# EAGLE library part LM13600 (library marky-parts)
LM13600 Operational Transconductance Amplifiers with Linearizing Diodes and Buffers
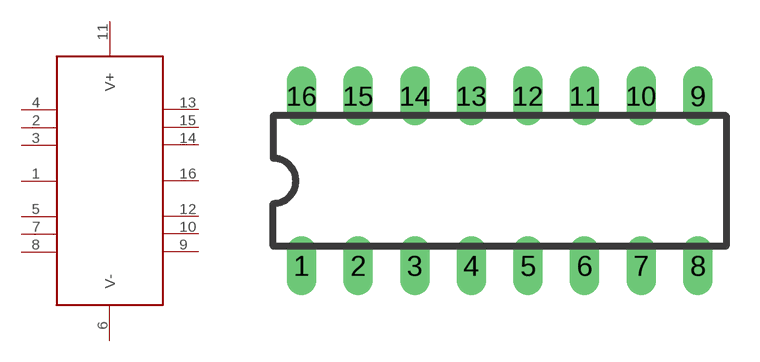
[diagram p0: symbol with the pads of DIL16; footprint DIL16]

Designator prefix U

## LM13600  [DIL16]
1  BIAS-IN-A  in
2  DIODE-BIAS-A  in
3  IN-PLUS-A  in
4  IN-MINUS-A  in
5  OUT-A  out
6  V-  pwr
7  B-IN-A  in
8  B-OUT-A  out
9  B-OUT-B  out
10  B-IN-B  in
11  V+  pwr
12  OUT-B  out
13  IN-MINUS-B  in
14  IN-PLUS-B  in
15  DIODE-BIAS-B  in
16  BIAS-IN-B  in

## Footprint DIL16 (pad centres in mm)
drill 0.813 long: 1 -8.89,-3.81; 2 -6.35,-3.81; 3 -3.81,-3.81; 4 -1.27,-3.81; 5 1.27,-3.81; 6 3.81,-3.81; 7 6.35,-3.81; 8 8.89,-3.81; 9 8.89,3.81; 10 6.35,3.81; 11 3.81,3.81; 12 1.27,3.81; 13 -1.27,3.81; 14 -3.81,3.81; 15 -6.35,3.81; 16 -8.89,3.81